# EAGLE library part CY8CMBR3106S (library PatternAgents-TouchChips)
Cypress CY8CMBR3106S - Capacitive Touch Sensor Controller with Slider Support Source Data: http://www.cypress.com/part/cy8cmbr3106s-lqxi PKG Source: http://www.cypress.com/part/cy8cmbr3106s-lqxi LBR Source: http://www.patternagents.com THIS SOFTWARE IS PROVIDED BY THE CONTRIBUTORS "AS IS" AND WITHOUT ANY EXPRESS OR IMPLIED WARRANTIES, INCLUDING, BUT NOT LIMITED TO, THE IMPLIED WARRANTIES OF MERCHANTABILITY AND FITNESS FOR A PARTICULAR PURPOSE ARE DISCLAIMED. IN NO EVENT SHALL THE COPYRIGHT OWNER OR CONTRIBUTORS BE LIABLE FOR ANY DIRECT, INDIRECT, INCIDENTAL, SPECIAL, EXEMPLARY, OR CONSEQUENTIAL DAMAGES (INCLUDING, BUT NOT LIMITED TO, PROCUREMENT OF SUBSTITUTE GOODS OR SERVICES; LOSS OF USE, DATA, OR PROFITS; OR BUSINESS INTERRUPTION) HOWEVER CAUSED AND ON ANY THEORY OF LIABILITY, WHETHER IN CONTRACT, STRICT LIABILITY, OR TORT (INCLUDING NEGLIGENCE OR OTHERWISE) ARISING IN ANY WAY OUT OF THE USE OF THIS SOFTWARE, EVEN IF ADVISED OF THE POSSIBILITY OF SUCH DAMAGE.
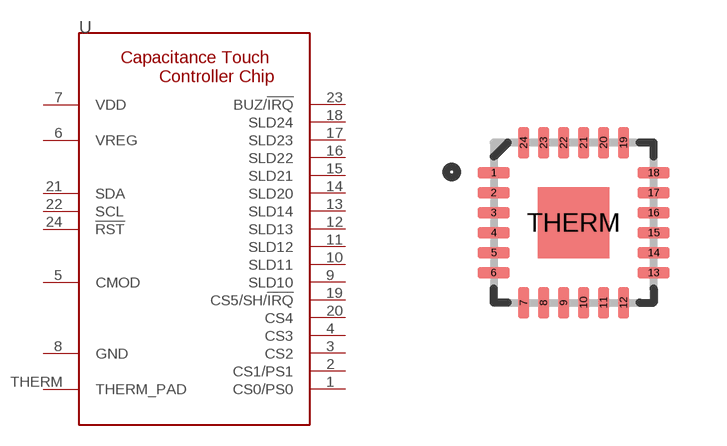
[diagram p3: symbol with the pads of QFN-24-0.4MM; footprint QFN-24-0.4MM]

Designator prefix U

## CY8CMBR3106S-LQXI  [QFN-24-0.4MM]
1  CS0/PS0
2  CS1/PS1
3  CS2
4  CS3
5  CMOD
6  VREG
7  VDD
8  GND
9  SLD10
10  SLD11
11  SLD12
12  SLD13
13  SLD14
14  SLD20
15  SLD21
16  SLD22
17  SLD23
18  SLD24
19  CS5/SH/!IRQ
20  CS4
21  SDA
22  SCL
23  BUZ/!IRQ
24  !RST
THERM  THERM_PAD

## Footprint QFN-24-0.4MM (pad centres in mm)
smd 0.8 x 0.28: 1 -2,1.25; 2 -2,0.75; 3 -2,0.25; 4 -2,-0.25; 5 -2,-0.75; 6 -2,-1.25; 13 2,-1.25; 14 2,-0.75; 15 2,-0.25; 16 2,0.25; 17 2,0.75; 18 2,1.25
smd 0.28 x 0.8: 7 -1.25,-2; 8 -0.75,-2; 9 -0.25,-2; 10 0.25,-2; 11 0.75,-2; 12 1.25,-2; 19 1.25,2; 20 0.75,2; 21 0.25,2; 22 -0.25,2; 23 -0.75,2; 24 -1.25,2
smd 1.778 x 1.778: THERM 0,0